# Altium integrated library BluePillPlus.IntLib: 1 symbol
Pins are listed as number, name and electrical type; pins without a type are passive.

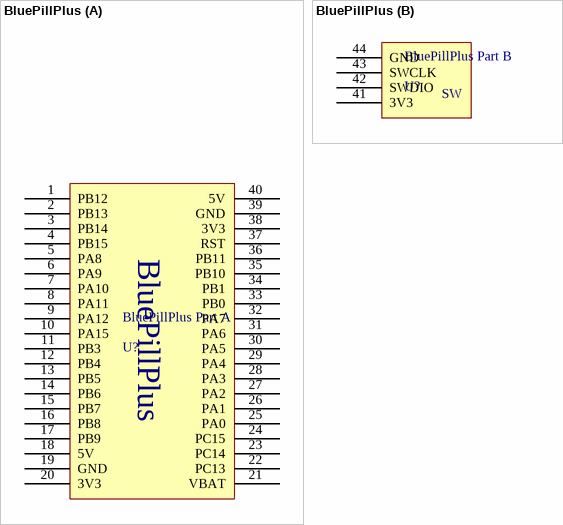
[diagram p0: symbol BluePillPlus]

## BluePillPlus
designator BluePillPlus Part, comment  U?
BluePillPlus; ComponentLink1Description: WeAct Studio; ComponentLink1URL: WeAct-TC.cn; ComponentLink2Description: BluePillPlus Github; ComponentLink2URL: https://github.com/WeActTC/BluePill-Plus; ComponentLink3Description: BluePillPlus Gitee; ComponentLink3URL: https://gitee.com/WeAct-TC/BluePill-Plus
footprint BluePillPlus
part A pins: 1 PB12, 2 PB13, 3 PB14, 4 PB15, 5 PA8, 6 PA9, 7 PA10, 8 PA11, 9 PA12, 10 PA15, 11 PB3, 12 PB4, 13 PB5, 14 PB6, 15 PB7, 16 PB8, 17 PB9, 18 5V, 19 GND, 20 3V3, 21 VBAT, 22 PC13, 23 PC14, 24 PC15, 25 PA0, 26 PA1, 27 PA2, 28 PA3, 29 PA4, 30 PA5, 31 PA6, 32 PA7, 33 PB0, 34 PB1, 35 PB10, 36 PB11, 37 RST, 38 3V3, 39 GND, 40 5V
part B pins: 41 3V3, 42 SWDIO, 43 SWCLK, 44 GND
part B text: SW